# EAGLE library part HEAD (library OctoGames)
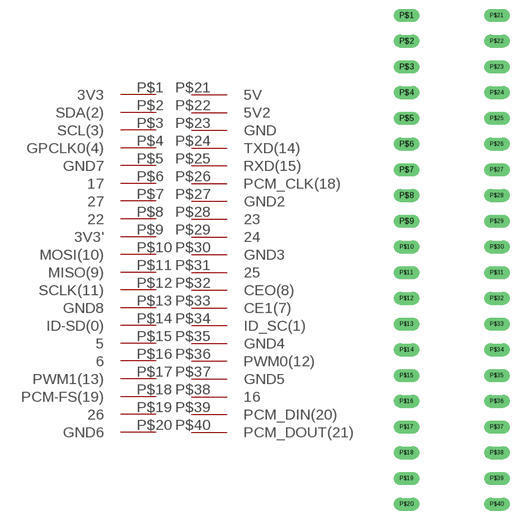
[diagram p0: symbol with the pads of HEAD; footprint HEAD]

Designator prefix HEAD

## HEAD  [HEAD]
P$1  3V3
P$2  SDA(2)
P$3  SCL(3)
P$4  GPCLK0(4)
P$5  GND7
P$6  17
P$7  27
P$8  22
P$9  3V3'
P$10  MOSI(10)
P$11  MISO(9)
P$12  SCLK(11)
P$13  GND8
P$14  ID-SD(0)
P$15  5
P$16  6
P$17  PWM1(13)
P$18  PCM-FS(19)
P$19  26
P$20  GND6
P$21  5V
P$22  5V2
P$23  GND
P$24  TXD(14)
P$25  RXD(15)
P$26  PCM_CLK(18)
P$27  GND2
P$28  23
P$29  24
P$30  GND3
P$31  25
P$32  CEO(8)
P$33  CE1(7)
P$34  ID_SC(1)
P$35  GND4
P$36  PWM0(12)
P$37  GND5
P$38  16
P$39  PCM_DIN(20)
P$40  PCM_DOUT(21)

## Footprint HEAD (pad centres in mm)
drill 0.6 pad 1.27 long: P$1 0,2.5; P$2 0,0; P$3 0,-2.5; P$4 0,-5; P$5 0,-7.5; P$6 0,-10; P$7 0,-12.5; P$8 0,-15; P$9 0,-17.5; P$10 0,-20; P$11 0,-22.5; P$12 0,-25; P$13 0,-27.5; P$14 0,-30; P$15 0,-32.5; P$16 0,-35; P$17 0,-37.5; P$18 0,-40; P$19 0,-42.5; P$20 0,-45; P$21 8.77,2.5; P$22 8.77,0; P$23 8.77,-2.5; P$24 8.77,-5; P$25 8.77,-7.5; P$26 8.77,-10; P$27 8.77,-12.5; P$28 8.77,-15; P$29 8.77,-17.5; P$30 8.77,-20; P$31 8.77,-22.5; P$32 8.77,-25; P$33 8.77,-27.5; P$34 8.77,-30; P$35 8.77,-32.5; P$36 8.77,-35; P$37 8.77,-37.5; P$38 8.77,-40; P$39 8.77,-42.5; P$40 8.77,-45